# Altium footprint library Orion Sleep - Control Board - Rev 2.PcbLib: 102 footprints (part 5 of 7)
Each footprint in its own frame and in the unit in brackets; x right, y up, seen from the top. Pads: shape width x height; smd on the part's side, far side on the other; paste and mask are expansions set on the pad; w line width, h text height; cw(c..) or ccw(c..) is an arc to the next point about the centre after c.
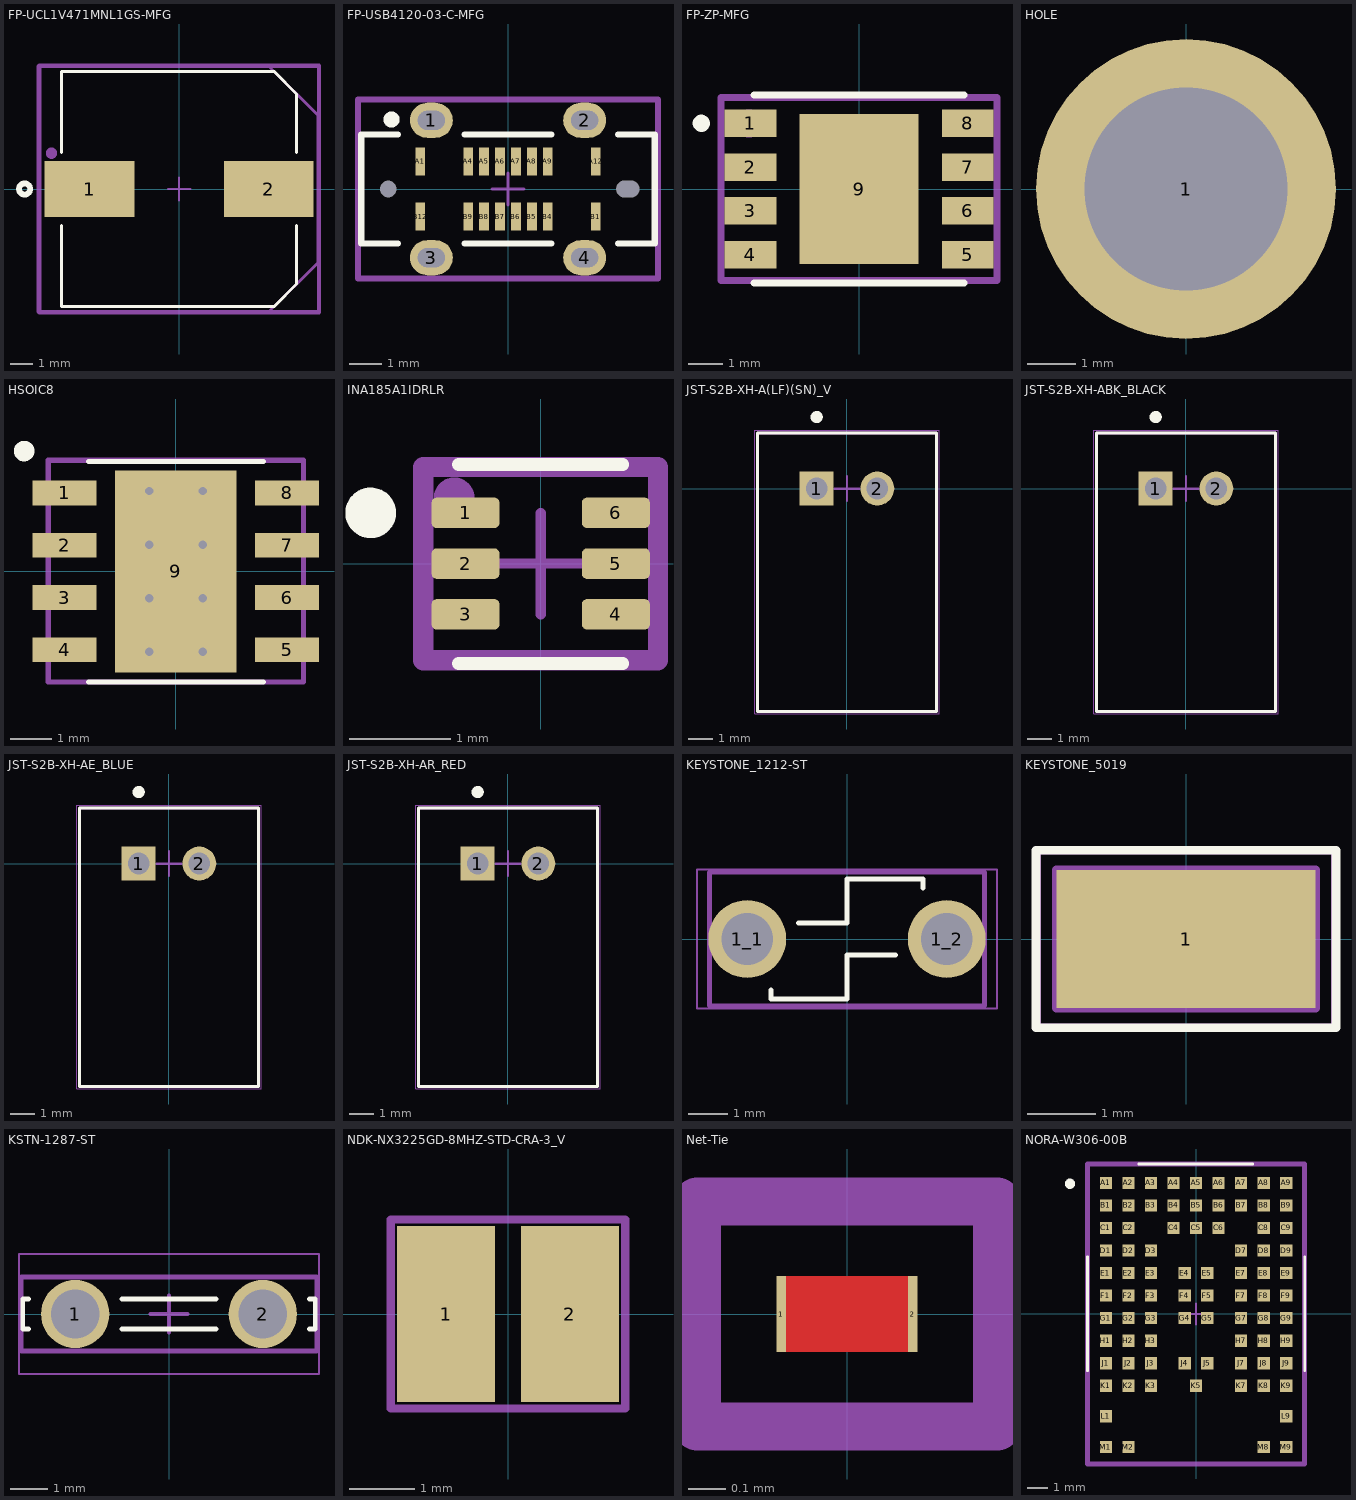
[diagram p4: the footprints below, top view; thin cyan lines are the x and y axes]

## FP-UCL1V471MNL1GS-MFG [mm]
height 0.6
pads (2):
  rect 4x2.5 smd: 1(-4,0) 2(4,0)
Top Overlay:
  circle w0.25: c-6.9,0 r0.25
  lines w0.127: -5.25,-1.625 -5.25,-5.25 4.25,-5.25 5.25,-4.25 5.25,-1.625 ; -5.25,1.625 -5.25,5.25 4.25,5.25 5.25,4.25 5.25,1.625
Top Assembly:
  circle w0.25: c-5.7,1.6 r0.125
  lines w0.127: -6.306,-5.498 4.002,-5.498 6.194,-3.306 6.194,3.306 3.998,5.502 -6.306,5.502 -6.306,-5.498
  text ".Designator" at -9.997,-0.666 h2
Top Courtyard:
  lines w0.2: -6.25,-5.5 6.25,-5.5 6.25,5.5 -6.25,5.5 -6.25,-5.5
Top Component Center:
  lines w0.1: -0.5,0 0.5,0 ; 0,-0.5 0,0.5
3D body "Cap_Nichicon_UCL1V471MNL1GS_eec.STEP": height 14.3, standoff 0, extent -5.45,-5.15 5.45,5.15

## FP-USB4120-03-C-MFG [mm]
pads (22):
  rrect100% 1.35x1.1 hole 0.6 slot 0.85 at 0 deg paste-2539.97: 1(-2.4,2.15) 2(2.4,2.15) 3(-2.4,-2.15) 4(2.4,-2.15)
  rect 0.3x0.87 smd paste+0 mask+0: A1(-2.75,0.865) A4(-1.25,0.865) A5(-0.75,0.865) A6(-0.25,0.865) A7(0.25,0.865) A8(0.75,0.865) A9(1.25,0.865) A12(2.75,0.865) B1(2.75,-0.865) B4(1.25,-0.865) B5(0.75,-0.865) B6(0.25,-0.865) B7(-0.25,-0.865) B8(-0.75,-0.865) B9(-1.25,-0.865) B12(-2.75,-0.865)
  round 0 hole 0.52 unplated paste-2539.97 mask+0.05: ""(-3.75,0)
  rrect100% 0x0 hole 0.52 slot 0.72 at 0 deg unplated paste-2539.97 mask+0.05: ""(3.75,0)
Top Overlay:
  circle w0.25: c-3.645,2.175 r0.125
  lines w0.2: -3.45,-1.705 -4.595,-1.705 -4.595,1.705 -3.45,1.705 ; -1.35,-1.705 1.35,-1.705 ; -1.35,1.705 1.35,1.705 ; 3.45,-1.705 4.595,-1.705 4.595,1.705 3.45,1.705
Top Assembly:
  circle w0.127: c-2.4,2.15 r0.225
  lines w0.127: -4.695,-2.8 -4.695,2.8 4.695,2.8 4.695,-2.8 -4.695,-2.8
  text ".Designator" at -4.998,-0.333 h1
Top Courtyard:
  lines w0.2: -4.695,-2.8 -4.695,2.8 4.695,2.8 4.695,-2.8 -4.695,-2.8
Top Component Center:
  lines w0.1: -0.5,0 0.5,0 ; 0,-0.5 0,0.5
3D body "Conn_GCT_USB4120-03-C_eec.STEP": height 0.25, standoff 0, extent -4.695,-2.8 4.695,2.8

## FP-ZP-MFG [mm]
pads (9):
  rect 1.5x0.8 smd: 1(-3.15,1.905) 2(-3.15,0.635) 3(-3.15,-0.635) 4(-3.15,-1.905) 5(3.15,-1.905) 6(3.15,-0.635) 7(3.15,0.635) 8(3.15,1.905)
  rect 3.45x4.35 smd: 9(0,0)
Top Overlay:
  circle w0.25: c-4.575,1.905 r0.125
  lines w0.2: -3.05,-2.725 3.05,-2.725 ; -3.05,2.725 3.05,2.725
Top Paste:
  rectangle: 2.5,1.555 3.9,2.255
  rectangle: 2.5,0.285 3.9,0.985
  rectangle: 2.5,-0.985 3.9,-0.285
  rectangle: 2.5,-2.255 3.9,-1.555
  rectangle: -3.9,-2.255 -2.5,-1.555
  rectangle: -3.9,-0.985 -2.5,-0.285
  rectangle: -3.9,0.285 -2.5,0.985
  rectangle: -3.9,1.555 -2.5,2.255
Top Assembly:
  circle w0.254: c-3.2,1.9 r0.283
  lines w0.2: -4,-2.65 -4,2.65 4,2.65 4,-2.65 -4,-2.65
  text ".Designator" at -9.997,-0.666 h2
Top Courtyard:
  lines w0.2: -4,-2.65 -4,2.65 4,2.65 4,-2.65 -4,-2.65
Top Component Center:
  lines w0.1: -0.5,0 0.5,0 ; 0,-0.5 0,0.5
3D body "IC_Winbond_Electronics_W25Q32JVZPIQ_eec.STEP": height 0.6, standoff 0, extent -3.005,-2.5 3.005,2.5

## HOLE [mm] "4.2 MM PTH HOLE"
pads (1):
  round 6.2 hole 4.2: 1(0,0)

## HSOIC8 [mm]
pads (9):
  rect 1.55x0.6 smd: 1(-2.7,1.905) 2(-2.7,0.635) 3(-2.7,-0.635) 4(-2.7,-1.905) 5(2.7,-1.905) 6(2.7,-0.635) 7(2.7,0.635) 8(2.7,1.905)
  rect 2.95x4.9 smd: 9(0,0)
via 0.65,0.65 diameter 0.457 hole 0.203
via -0.65,0.65 diameter 0.457 hole 0.203
via 0.65,-0.65 diameter 0.457 hole 0.203
via -0.65,-0.65 diameter 0.457 hole 0.203
via 0.65,-1.95 diameter 0.457 hole 0.203
via -0.65,-1.95 diameter 0.457 hole 0.203
via 0.65,1.95 diameter 0.457 hole 0.203
via -0.65,1.95 diameter 0.457 hole 0.203
Top Overlay:
  circle w0.25: c-3.683,2.921 r0.125
  lines w0.127: -2.115,-2.688 2.127,-2.688 ; -2.115,2.666 2.127,2.666
Top Assembly:
  circle w0.25: c-2.6,1.9 r0.125
  lines w0.127: -3.1,-2.688 3.1,-2.688 3.1,2.7 -3.1,2.7 -3.1,-2.688
  text ".Designator" at -4.998,-0.333 h1
Top Component Center:
  lines w0.1: -0.5,0 0.5,0 ; 0,-0.5 0,0.5
3D body "SOIC8_DDA_TEX.step": height 1.7, standoff 0, extent -3.093,-2.513 3.105,2.491

## INA185A1IDRLR [mm]
pads (6):
  rrect33% 0.67x0.3 smd mask+0.045: 1(-0.74,0.5) 2(-0.74,0) 3(-0.74,-0.5) 4(0.74,-0.5) 5(0.74,0) 6(0.74,0.5)
Top Overlay:
  circle w0.25: c-1.675,0.5 r0.125
  lines w0.127: -0.808,-0.983 0.808,-0.983 ; -0.808,0.975 0.808,0.975
Top Assembly:
  circle w0.2: c-0.853,0.65 r0.1
  lines w0.127: -1.156,-0.953 1.156,-0.953 1.156,0.953 -1.156,0.953 -1.156,-0.953
  text ".Designator" at -2.499,-0.167 h0.5
Top Courtyard:
  lines w0.2: -1.156,-0.953 1.156,-0.953 1.156,0.953 -1.156,0.953 -1.156,-0.953
Top Component Center:
  lines w0.1: -0.5,0 0.5,0 ; 0,-0.5 0,0.5
3D body "DRL0006A.stp": height 0.6, standoff 0, extent -0.792,-0.786 0.808,0.779

## JST-S2B-XH-A(LF)(SN)_V [mm] "Header, 2-Leads, Body 7.4x11.5mm, Pitch 2.5mm"
height 6.1
pads (2):
  rect 1.4x1.4 hole 0.9 mask+0.05: 1(-1.25,0)
  round 1.4 hole 0.9 mask+0.05: 2(1.25,0)
Top Overlay:
  circle w0.25: c-1.25,2.95 r0.125
  lines w0.127: -3.697,2.3 -3.7,2.3 ; -3.7,2.3 -3.7,-9.2 3.7,-9.2 3.7,2.3 -3.7,2.3
Top Assembly:
  circle w0.25: c-1.25,0 r0.35
  lines w0.127: -3.7,-9.2 -3.7,2.3 3.7,2.3 3.7,-9.2 -3.7,-9.2
  text ".Designator" at -9.997,-4.666 h2
Top Courtyard:
  lines w0.05: -3.8,-9.3 -3.8,2.4 3.8,2.4 3.8,-9.3 -3.8,-9.3
  lines w0.1: -0.5,0 0.5,0 ; 0,-0.5 0,0.5
3D body "S2B-XH-A.STEP": height 6.11, standoff -3.39, extent -3.7,-9.2 3.7,2.3

## JST-S2B-XH-ABK_BLACK [mm] "Header, 2-Leads, Body 7.4x11.5mm, Pitch 2.5mm, BLACK"
height 6.1
pads (2):
  rect 1.4x1.4 hole 0.9 mask+0.05: 1(-1.25,0)
  round 1.4 hole 0.9 mask+0.05: 2(1.25,0)
Top Overlay:
  circle w0.25: c-1.25,2.95 r0.125
  lines w0.127: -3.697,2.3 -3.7,2.3 ; -3.7,2.3 -3.7,-9.2 3.7,-9.2 3.7,2.3 -3.7,2.3
Top Assembly:
  circle w0.25: c-1.25,0 r0.35
  lines w0.127: -3.7,-9.2 -3.7,2.3 3.7,2.3 3.7,-9.2 -3.7,-9.2
  text ".Designator" at -9.997,-4.666 h2
Top Courtyard:
  lines w0.05: -3.8,-9.3 -3.8,2.4 3.8,2.4 3.8,-9.3 -3.8,-9.3
  lines w0.1: -0.5,0 0.5,0 ; 0,-0.5 0,0.5
3D body "S2B-XH-A.STEP": height 6.11, standoff -3.39, extent -3.7,-9.2 3.7,2.3

## JST-S2B-XH-AE_BLUE [mm] "Header, 2-Leads, Body 7.4x11.5mm, Pitch 2.5mm, BLUE"
height 6.1
pads (2):
  rect 1.4x1.4 hole 0.9 mask+0.05: 1(-1.25,0)
  round 1.4 hole 0.9 mask+0.05: 2(1.25,0)
Top Overlay:
  circle w0.25: c-1.25,2.95 r0.125
  lines w0.127: -3.697,2.3 -3.7,2.3 ; -3.7,2.3 3.7,2.3 3.7,-9.2 -3.7,-9.2 -3.7,2.3
Top Assembly:
  circle w0.25: c-1.25,0 r0.35
  lines w0.127: -3.7,-9.2 3.7,-9.2 3.7,2.3 -3.7,2.3 -3.7,-9.2
  text ".Designator" at -9.997,-4.666 h2
Top Courtyard:
  lines w0.05: -3.8,-9.3 3.8,-9.3 3.8,2.4 -3.8,2.4 -3.8,-9.3
  lines w0.1: -0.5,0 0.5,0 ; 0,-0.5 0,0.5
3D body "S2B-XH-A.STEP": height 6.11, standoff -3.39, extent -3.7,-9.2 3.7,2.3

## JST-S2B-XH-AR_RED [mm] "Header, 2-Leads, Body 7.4x11.5mm, Pitch 2.5mm, RED"
height 6.1
pads (2):
  rect 1.4x1.4 hole 0.9 mask+0.05: 1(-1.25,0)
  round 1.4 hole 0.9 mask+0.05: 2(1.25,0)
Top Overlay:
  circle w0.25: c-1.25,2.95 r0.125
  lines w0.127: -3.697,2.3 -3.7,2.3 ; -3.7,2.3 3.7,2.3 3.7,-9.2 -3.7,-9.2 -3.7,2.3
Top Assembly:
  circle w0.25: c-1.25,0 r0.35
  lines w0.127: -3.7,-9.2 3.7,-9.2 3.7,2.3 -3.7,2.3 -3.7,-9.2
  text ".Designator" at -9.997,-4.666 h2
Top Courtyard:
  lines w0.05: -3.8,-9.3 3.8,-9.3 3.8,2.4 -3.8,2.4 -3.8,-9.3
  lines w0.1: -0.5,0 0.5,0 ; 0,-0.5 0,0.5
3D body "S2B-XH-A.STEP": height 6.11, standoff -3.39, extent -3.7,-9.2 3.7,2.3

## KEYSTONE_1212-ST [mm]
height 12.95
pads (2):
  round 1.98 hole 1.32 mask+0.05: 1_1(-2.54,0) 1_2(2.54,0)
Top Overlay:
  lines w0.127: -1.937,-1.304 -1.937,-1.525 0,-1.525 0,-0.405 1.236,-0.405 ; -1.236,0.405 0,0.405 0,1.525 1.937,1.525 1.937,1.304
Top Assembly:
  lines w0.127: -3.5,-1.7 -3.5,1.7 3.5,1.7 3.5,-1.7 -3.5,-1.7
  text ".Designator" at -7.618,-0.508 h1.52
Top Courtyard:
  lines w0.05: -3.82,-1.775 -3.82,1.775 3.82,1.775 3.82,-1.775 -3.82,-1.775
3D body "1212-ST.STEP": height 11.92, standoff -1.07, extent -3.599,-1.518 3.596,1.545

## KEYSTONE_5019 [mm] "PC TEST POINT MINIATURE"
height 2.29
pads (1):
  rect 3.8x2.03 smd: 1(0,0)
Top Overlay:
  lines w0.127: -2.2,-1.3 -2.2,1.3 2.2,1.3 2.2,-1.3 -2.2,-1.3
Top Assembly:
  lines w0.127: -1.905,-1.015 1.905,-1.015 1.905,1.015 -1.905,1.015 -1.905,-1.015
  text ".Designator" at -4.998,-0.333 h1
Top Courtyard:
  lines w0.05: -2.155,-1.265 2.155,-1.265 2.155,1.265 -2.155,1.265 -2.155,-1.265
3D body "step_temp.STEP": height 2.3, standoff 0.01, extent -1.905,-1.015 1.905,1.015

## KSTN-1287-ST [mm] "FIT, 2-Leads, Pitch 5.08mm, Male"
height 10.21
pads (2):
  round 1.85 hole 1.32 mask+0.05: 1(-2.54,0) 2(2.54,0)
Top Overlay:
  lines w0.127: -3.801,-0.405 -3.96,-0.405 -3.96,0.405 -3.801,0.405 ; -1.279,-0.405 1.279,-0.405 ; -1.279,0.405 1.279,0.405 ; 3.801,-0.405 3.96,-0.405 3.96,0.405 3.801,0.405
Top Assembly:
  lines w0.127: -4,-1 -4,1 4,1 4,-1 -4,-1
  text ".Designator" at -4.998,-0.333 h1
Top Courtyard:
  lines w0.05: -4.06,-1.625 4.06,-1.625 4.06,1.625 -4.06,1.625 -4.06,-1.625
  lines w0.1: -0.5,0 0.5,0 ; 0,-0.5 0,0.5
3D body: height 10.21, standoff 2.29, extent -3.175,-0.405 3.175,0.405
3D body: height 2.29, standoff 0, extent -3.96,-0.405 3.96,0.405

## NDK-NX3225GD-8MHZ-STD-CRA-3_V [mm] "SMD, 2-Leads, Body 3.2x2.5mm"
height 1
pads (2):
  rect 1.5x2.7 smd: 1(-0.95,0) 2(0.95,0)
Top Assembly:
  lines w0.127: -1.8,-1.45 1.8,-1.45 1.8,1.45 -1.8,1.45 -1.8,-1.45
  text ".Designator" at -4.998,-0.333 h1
3D body: height 1, standoff 0, extent -1.599,-1.249 1.599,1.249

## Net-Tie [mil] "14.78 mil x 8 mil Net Tie"
pads (2):
  rect 1x8 smd mask+1.97: 1(-6.89,0) 2(6.89,0)
Top Layer:
  rectangle: -6.89,-4 6.89,4
Top Assembly:
  lines w5: -15.75,-11.81 -15.75,11.81 15.75,11.81 15.75,-11.81 -15.75,-11.81
  text ".Designator" at -98.39,24.94 h19.68

## NORA-W306-00B [mm]
pads (82):
  rect 0.6x0.6 smd: A1(-4.4,6.4) A2(-3.3,6.4) A3(-2.2,6.4) A4(-1.1,6.4) A5(0,6.4) A6(1.1,6.4) A7(2.2,6.4) A8(3.3,6.4) A9(4.4,6.4) B1(-4.4,5.3) B2(-3.3,5.3) B3(-2.2,5.3) B4(-1.1,5.3) B5(0,5.3) B6(1.1,5.3) B7(2.2,5.3) B8(3.3,5.3) B9(4.4,5.3) C1(-4.4,4.2) C2(-3.3,4.2) C4(-1.1,4.2) C5(0,4.2) C6(1.1,4.2) C8(3.3,4.2) C9(4.4,4.2) D1(-4.4,3.1) D2(-3.3,3.1) D3(-2.2,3.1) D7(2.2,3.1) D8(3.3,3.1) D9(4.4,3.1) E1(-4.4,2) E2(-3.3,2) E3(-2.2,2) E4(-0.55,2) E5(0.55,2) E7(2.2,2) E8(3.3,2) E9(4.4,2) F1(-4.4,0.9) F2(-3.3,0.9) F3(-2.2,0.9) F4(-0.55,0.9) F5(0.55,0.9) F7(2.2,0.9) F8(3.3,0.9) F9(4.4,0.9) G1(-4.4,-0.2) G2(-3.3,-0.2) G3(-2.2,-0.2) G4(-0.55,-0.2) G5(0.55,-0.2) G7(2.2,-0.2) G8(3.3,-0.2) G9(4.4,-0.2) H1(-4.4,-1.3) H2(-3.3,-1.3) H3(-2.2,-1.3) H7(2.2,-1.3) H8(3.3,-1.3) H9(4.4,-1.3) J1(-4.4,-2.4) J2(-3.3,-2.4) J3(-2.2,-2.4) J4(-0.55,-2.4) J5(0.55,-2.4) J7(2.2,-2.4) J8(3.3,-2.4) J9(4.4,-2.4) K1(-4.4,-3.5) K2(-3.3,-3.5) K3(-2.2,-3.5) K5(0,-3.5) K7(2.2,-3.5) K8(3.3,-3.5) K9(4.4,-3.5) L1(-4.4,-5) L9(4.4,-5) M1(-4.4,-6.5) M2(-3.3,-6.5) M8(3.3,-6.5) M9(4.4,-6.5)
Top Overlay:
  circle w0.25: c-6.156,6.361 r0.125
  lines w0.127: -5.3,-2.763 -5.3,2.8 ; -2.794,7.325 2.769,7.325 ; 5.3,-2.763 5.3,2.8
Top Assembly:
  circle w0.25: c-4.4,6.4 r0.125
  lines w0.127: -5.3,-7.325 -5.3,7.325 5.3,7.325 5.3,-7.325 -5.3,-7.325
  text ".Designator" at -9.997,-0.666 h2
Top Courtyard:
  lines w0.254: -5.3,-7.325 5.3,-7.325 5.3,7.325 -5.3,7.325 -5.3,-7.325
Top Component Center:
  lines w0.1: -0.5,0 0.5,0 ; 0,-0.5 0,0.5
3D body "NORA-W106-00B.STEP": height 1.9, standoff 0, extent -5.2,-7.15 5.2,7.15